# EAGLE library part 61729-1011 (library Tinkercad)
USB(2.0) Type-B, RCPT, 4POS, THT-R/A Datasheet <https://www.amphenol-icc.com/media/wysiwyg/files/drawing/61729.pdf>
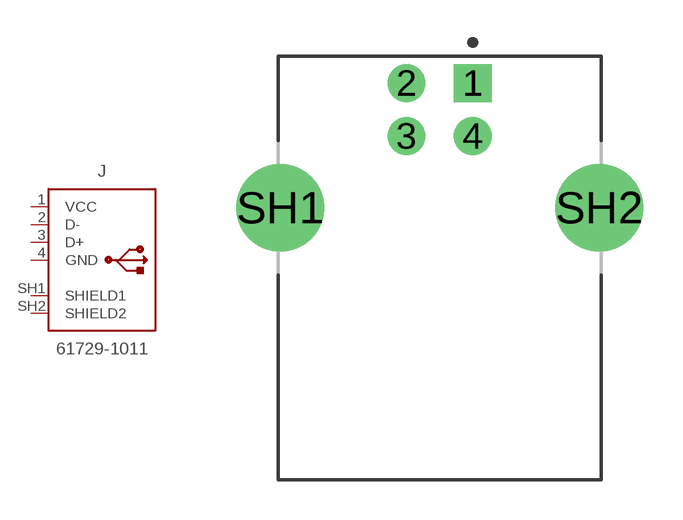
[diagram p31: symbol with the pads of 61729-1011BLF; footprint 61729-1011BLF]

Designator prefix J

## 61729-1011 (CATEGORY: Connector; CONTACTS: 4; CURRENT_RATING: 1A; DESCRIPTION: CONN RCPT USB2.0 TYPEB 4POS R/A; GENDER: Receptacle; MANUFACTURER: Amphenol ICC (FCI); MOUNT_TYPE: R/A; MPN: 61729-1011BLF; OPERATING_TEMP: -55°C to 85°C; PART_STATUS: Active; ROHS_COMPLIANT: RoHS Compliant; SERIES: 61729; SUB-CATEGORY: USB; TYPE: USB-B)  [61729-1011BLF]
1  VCC
2  D-
3  D+
4  GND
SH1  SHIELD1  sup
SH2  SHIELD2  sup

## Footprint 61729-1011BLF (pad centres in mm)
drill 0.92 square: 1 1.25,4.71
drill 0.92: 2 -1.25,4.71; 3 -1.25,2.71; 4 1.25,2.71
drill 2.3: SH1 -6.02,0; SH2 6.02,0